# Altium footprint library SparkFun-Connectors.PCBLIB: 310 footprints (part 7 of 20)
Each footprint in its own frame and in the unit in brackets; x right, y up, seen from the top. Pads: shape width x height; smd on the part's side, far side on the other; paste and mask are expansions set on the pad; w line width, h text height; cw(c..) or ccw(c..) is an arc to the next point about the centre after c.
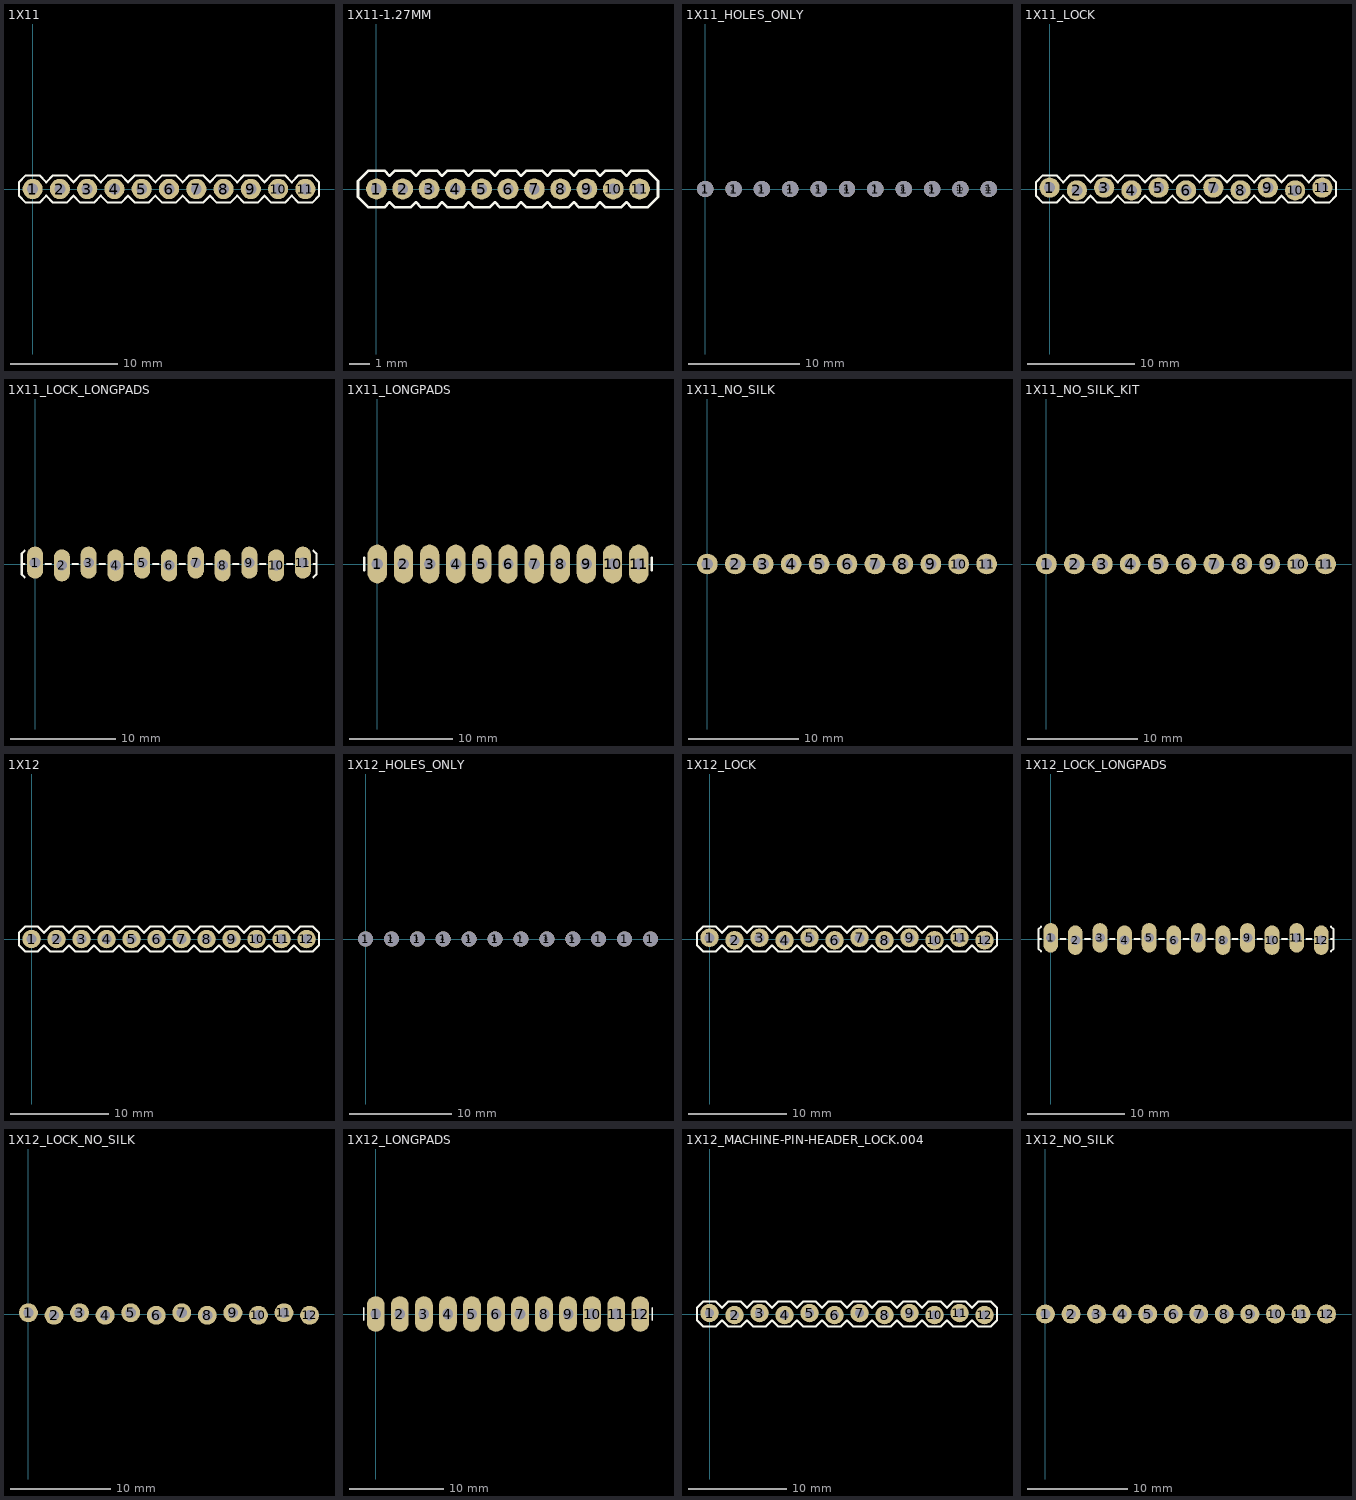
[diagram p6: the footprints below, top view; thin cyan lines are the x and y axes]

## 1X11 [mil]
pads (11):
  round 74 hole 40: 1(0,0) 2(100,0) 3(200,0) 4(300,0) 5(400,0) 6(500,0) 7(600,0) 8(700,0) 9(800,0) 10(900,0) 11(1000,0)
Top Overlay:
  lines w8: -50,-25 -50,25 -25,50 25,50 50,25 75,50 125,50 150,25 175,50 225,50 250,25 275,50 325,50 350,25 375,50 425,50 450,25 475,50 525,50 550,25 575,50 625,50 650,25 675,50 725,50 750,25 775,50 825,50 850,25 875,50 925,50 950,25 975,50 1025,50 1050,25 1050,-25 1025,-50 975,-50 950,-25 925,-50 875,-50 850,-25 825,-50 775,-50 750,-25 725,-50 675,-50 650,-25 625,-50 575,-50 550,-25 525,-50 475,-50 450,-25 425,-50 375,-50 350,-25 325,-50 275,-50 250,-25 225,-50 175,-50 150,-25 125,-50 75,-50 50,-25 25,-50 -25,-50 -50,-25
Mechanical 16:
  rectangle: 590,-10 610,10
  rectangle: 490,-10 510,10
  rectangle: 390,-10 410,10
  rectangle: 290,-10 310,10
  rectangle: 190,-10 210,10
  rectangle: 90,-10 110,10
  rectangle: -10,-10 10,10
  rectangle: 690,-10 710,10
  rectangle: 790,-10 810,10
  rectangle: 890,-10 910,10
  rectangle: 990,-10 1010,10

## 1X11-1.27MM [mm]
pads (11):
  round 1 hole 0.508: 1(0,0) 2(1.27,0) 3(2.54,0) 4(3.81,0) 5(5.08,0) 6(6.35,0) 7(7.62,0) 8(8.89,0) 9(10.16,0) 10(11.43,0) 11(12.7,0)
Top Overlay:
  lines w0.127: -0.889,-0.381 -0.889,0.381 -0.381,0.889 0.381,0.889 0.635,0.635 0.889,0.889 1.651,0.889 1.905,0.635 2.159,0.889 2.921,0.889 3.175,0.635 3.429,0.889 4.191,0.889 4.445,0.635 4.699,0.889 5.461,0.889 5.715,0.635 5.969,0.889 6.731,0.889 6.985,0.635 7.239,0.889 8.001,0.889 8.255,0.635 8.509,0.889 9.271,0.889 9.525,0.635 9.779,0.889 10.541,0.889 10.795,0.635 11.049,0.889 11.811,0.889 12.065,0.635 12.319,0.889 13.081,0.889 13.589,0.381 13.589,-0.381 13.081,-0.889 12.319,-0.889 12.065,-0.635 11.811,-0.889 11.049,-0.889 10.795,-0.635 10.541,-0.889 9.779,-0.889 9.525,-0.635 9.271,-0.889 8.509,-0.889 8.255,-0.635 8.001,-0.889 7.239,-0.889 6.985,-0.635 6.731,-0.889 5.969,-0.889 5.715,-0.635 5.461,-0.889 4.699,-0.889 4.445,-0.635 4.191,-0.889 3.429,-0.889 3.175,-0.635 2.921,-0.889 2.159,-0.889 1.905,-0.635 1.651,-0.889 0.889,-0.889 0.635,-0.635 0.381,-0.889 -0.381,-0.889 -0.889,-0.381

## 1X11_HOLES_ONLY [mil]
pads (22):
  round 32 hole 35: 1(0,0) 2(100,0) 3(200,0) 4(300,0) 5(400,0) 6(500,0) 7(600,0) 8(700,0) 9(800,0) 10(900,0) 11(1000,0)
  round 58 hole 58: 1(0,0) 1(100,0) 1(200,0) 1(300,0) 1(400,0) 1(500,0) 1(600,0) 1(700,0) 1(800,0) 1(900,0) 1(1000,0)
Mechanical 16:
  circle w5: c0,0 r25
  circle w5: c100,0 r25
  circle w5: c200,0 r25
  circle w5: c300,0 r25
  circle w5: c400,0 r25
  circle w5: c500,0 r25
  circle w5: c600,0 r25
  circle w5: c700,0 r25
  circle w5: c800,0 r25
  circle w5: c900,0 r25
  circle w5: c1000,0 r25

## 1X11_LOCK [mil]
pads (11):
  round 74 hole 40: 1(0,5) 2(100,-5) 3(200,5) 4(300,-5) 5(400,5) 6(500,-5) 7(600,5) 8(700,-5) 9(800,5) 10(900,-5) 11(1000,5)
Top Overlay:
  lines w8: -50,-25 -50,25 -25,50 25,50 50,25 75,50 125,50 150,25 175,50 225,50 250,25 275,50 325,50 350,25 375,50 425,50 450,25 475,50 525,50 550,25 575,50 625,50 650,25 675,50 725,50 750,25 775,50 825,50 850,25 875,50 925,50 950,25 975,50 1025,50 1050,25 1050,-25 1025,-50 975,-50 950,-25 925,-50 875,-50 850,-25 825,-50 775,-50 750,-25 725,-50 675,-50 650,-25 625,-50 575,-50 550,-25 525,-50 475,-50 450,-25 425,-50 375,-50 350,-25 325,-50 275,-50 250,-25 225,-50 175,-50 150,-25 125,-50 75,-50 50,-25 25,-50 -25,-50 -50,-25
Mechanical 16:
  rectangle: 590,-10 610,10
  rectangle: 490,-10 510,10
  rectangle: 390,-10 410,10
  rectangle: 290,-10 310,10
  rectangle: 190,-10 210,10
  rectangle: 90,-10 110,10
  rectangle: -10,-10 10,10
  rectangle: 690,-10 710,10
  rectangle: 790,-10 810,10
  rectangle: 890,-10 910,10
  rectangle: 990,-10 1010,10

## 1X11_LOCK_LONGPADS [mil]
pads (11):
  oval 60x120 hole 40: 1(0,5) 2(100,-5) 3(200,5) 4(300,-5) 5(400,5) 6(500,-5) 7(600,5) 8(700,-5) 9(800,5) 10(900,-5) 11(1000,5)
Top Overlay:
  lines w8: -40,0 -50,0 ; -39,-50 -50,-39 -50,0 ; -39,50 -50,39 -50,0 ; 40,0 60,0 ; 140,0 160,0 ; 240,0 260,0 ; 340,0 360,0 ; 440,0 460,0 ; 540,0 560,0 ; 640,0 660,0 ; 740,0 760,0 ; 840,0 860,0 ; 940,0 960,0 ; 1039,-50 1050,-39 1050,0 ; 1039,50 1050,39 1050,0 ; 1040,0 1050,0
Mechanical 16:
  rectangle: -11.5,-11.5 11.5,11.5
  rectangle: 88.5,-11.5 111.5,11.5
  rectangle: 188.5,-11.5 211.5,11.5
  region: 311.5,-11.5 311.5,11.5 288.5,11.5 288.5,-11.5
  rectangle: 388.5,-11.5 411.5,11.5
  rectangle: 488.5,-11.5 511.5,11.5
  rectangle: 588.5,-11.5 611.5,11.5
  rectangle: 688.5,-11.5 711.5,11.5
  rectangle: 788.5,-11.5 811.5,11.5
  region: 911.5,-11.5 911.5,11.5 888.5,11.5 888.5,-11.5
  rectangle: 988.5,-11.5 1011.5,11.5

## 1X11_LONGPADS [mil]
pads (11):
  oval 74x148 hole 44: 1(0,0) 2(100,0) 3(200,0) 4(300,0) 5(400,0) 6(500,0) 7(600,0) 8(700,0) 9(800,0) 10(900,0) 11(1000,0)
Top Overlay:
  lines w8: -50,-25 -50,25 ; 1050,-25 1050,25
Mechanical 16:
  rectangle: 590,-10 610,10
  rectangle: 490,-10 510,10
  rectangle: 390,-10 410,10
  rectangle: 290,-10 310,10
  rectangle: 190,-10 210,10
  rectangle: 90,-10 110,10
  rectangle: -10,-10 10,10
  rectangle: 690,-10 710,10
  rectangle: 790,-10 810,10
  rectangle: 890,-10 910,10
  rectangle: 990,-10 1010,10

## 1X11_NO_SILK [mil]
pads (11):
  round 74 hole 40: 1(0,0) 2(100,0) 3(200,0) 4(300,0) 5(400,0) 6(500,0) 7(600,0) 8(700,0) 9(800,0) 10(900,0) 11(1000,0)
Mechanical 16:
  rectangle: 590,-10 610,10
  rectangle: 490,-10 510,10
  rectangle: 390,-10 410,10
  rectangle: 290,-10 310,10
  rectangle: 190,-10 210,10
  rectangle: 90,-10 110,10
  rectangle: -10,-10 10,10
  rectangle: 690,-10 710,10
  rectangle: 790,-10 810,10
  rectangle: 890,-10 910,10
  rectangle: 990,-10 1010,10

## 1X11_NO_SILK_KIT [mil]
pads (11):
  round 74 hole 40: 1(0,0) 2(100,0) 3(200,0) 4(300,0) 5(400,0) 6(500,0) 7(600,0) 8(700,0) 9(800,0) 10(900,0) 11(1000,0)
Top Solder:
  circle w0: c0,0 r20
  circle w0: c100,0 r20
  circle w0: c200,0 r20
  circle w0: c300,0 r20
  circle w0: c400,0 r20
  circle w0: c500,0 r20
  circle w0: c600,0 r20
  circle w0: c700,0 r20
  circle w0: c800,0 r20
  circle w0: c900,0 r20
  circle w0: c1000,0 r20
Bottom Solder:
  circle w0: c0,0 r37.5
  circle w0: c100,0 r37.5
  circle w0: c200,0 r37.5
  circle w0: c300,0 r37.5
  circle w0: c400,0 r37.5
  circle w0: c500,0 r37.5
  circle w0: c600,0 r37.5
  circle w0: c700,0 r37.5
  circle w0: c800,0 r37.5
  circle w0: c900,0 r37.5
  circle w0: c1000,0 r37.5

## 1X12 [mil]
pads (12):
  round 74 hole 40: 1(0,0) 2(100,0) 3(200,0) 4(300,0) 5(400,0) 6(500,0) 7(600,0) 8(700,0) 9(800,0) 10(900,0) 11(1000,0) 12(1100,0)
Top Overlay:
  lines w8: -50,-25 -50,25 -25,50 25,50 50,25 75,50 125,50 150,25 175,50 225,50 250,25 275,50 325,50 350,25 375,50 425,50 450,25 475,50 525,50 550,25 575,50 625,50 650,25 675,50 725,50 750,25 775,50 825,50 850,25 875,50 925,50 950,25 975,50 1025,50 1050,25 1075,50 1125,50 1150,25 1150,-25 1125,-50 1075,-50 1050,-25 1025,-50 975,-50 950,-25 925,-50 875,-50 850,-25 825,-50 775,-50 750,-25 725,-50 675,-50 650,-25 625,-50 575,-50 550,-25 525,-50 475,-50 450,-25 425,-50 375,-50 350,-25 325,-50 275,-50 250,-25 225,-50 175,-50 150,-25 125,-50 75,-50 50,-25 25,-50 -25,-50 -50,-25
Mechanical 16:
  rectangle: 590,-10 610,10
  rectangle: 490,-10 510,10
  rectangle: 390,-10 410,10
  rectangle: 290,-10 310,10
  rectangle: 190,-10 210,10
  rectangle: 90,-10 110,10
  rectangle: -10,-10 10,10
  rectangle: 690,-10 710,10
  rectangle: 790,-10 810,10
  rectangle: 890,-10 910,10
  rectangle: 990,-10 1010,10
  rectangle: 1090,-10 1110,10

## 1X12_HOLES_ONLY [mil]
pads (24):
  round 32 hole 35: 1(0,0) 2(100,0) 3(200,0) 4(300,0) 5(400,0) 6(500,0) 7(600,0) 8(700,0) 9(800,0) 10(900,0) 11(1000,0) 12(1100,0)
  round 58 hole 58: 1(0,0) 1(100,0) 1(200,0) 1(300,0) 1(400,0) 1(500,0) 1(600,0) 1(700,0) 1(800,0) 1(900,0) 1(1000,0) 1(1100,0)
Mechanical 16:
  circle w5: c0,0 r25
  circle w5: c100,0 r25
  circle w5: c200,0 r25
  circle w5: c300,0 r25
  circle w5: c400,0 r25
  circle w5: c500,0 r25
  circle w5: c600,0 r25
  circle w5: c700,0 r25
  circle w5: c800,0 r25
  circle w5: c900,0 r25
  circle w5: c1000,0 r25
  circle w5: c1100,0 r25

## 1X12_LOCK [mil]
pads (12):
  round 74 hole 40: 1(0,5) 2(100,-5) 3(200,5) 4(300,-5) 5(400,5) 6(500,-5) 7(600,5) 8(700,-5) 9(800,5) 10(900,-5) 11(1000,5) 12(1100,-5)
Top Overlay:
  lines w8: -50,-25 -50,25 -25,50 25,50 50,25 75,50 125,50 150,25 175,50 225,50 250,25 275,50 325,50 350,25 375,50 425,50 450,25 475,50 525,50 550,25 575,50 625,50 650,25 675,50 725,50 750,25 775,50 825,50 850,25 875,50 925,50 950,25 975,50 1025,50 1050,25 1075,50 1125,50 1150,25 1150,-25 1125,-50 1075,-50 1050,-25 1025,-50 975,-50 950,-25 925,-50 875,-50 850,-25 825,-50 775,-50 750,-25 725,-50 675,-50 650,-25 625,-50 575,-50 550,-25 525,-50 475,-50 450,-25 425,-50 375,-50 350,-25 325,-50 275,-50 250,-25 225,-50 175,-50 150,-25 125,-50 75,-50 50,-25 25,-50 -25,-50 -50,-25
Mechanical 16:
  rectangle: 590,-10 610,10
  region: 510,-10 510,10 490,10 490,-10
  rectangle: 390,-10 410,10
  rectangle: 290,-10 310,10
  rectangle: 190,-10 210,10
  rectangle: 90,-10 110,10
  rectangle: -10,-10 10,10
  rectangle: 690,-10 710,10
  rectangle: 790,-10 810,10
  rectangle: 890,-10 910,10
  rectangle: 990,-10 1010,10
  rectangle: 1090,-10 1110,10

## 1X12_LOCK_LONGPADS [mil]
pads (12):
  oval 60x120 hole 40: 1(0,5) 2(100,-5) 3(200,5) 4(300,-5) 5(400,5) 6(500,-5) 7(600,5) 8(700,-5) 9(800,5) 10(900,-5) 11(1000,5) 12(1100,-5)
Top Overlay:
  lines w8: -40,0 -50,0 ; -39,-50 -50,-39 -50,0 ; -39,50 -50,39 -50,0 ; 40,0 60,0 ; 140,0 160,0 ; 240,0 260,0 ; 340,0 360,0 ; 440,0 460,0 ; 540,0 560,0 ; 640,0 660,0 ; 740,0 760,0 ; 840,0 860,0 ; 940,0 960,0 ; 1040,0 1060,0 ; 1139,-50 1150,-39 1150,0 ; 1139,50 1150,39 1150,0 ; 1140,0 1150,0
Mechanical 16:
  rectangle: -11.5,-11.5 11.5,11.5
  rectangle: 88.5,-11.5 111.5,11.5
  rectangle: 188.5,-11.5 211.5,11.5
  region: 311.5,-11.5 311.5,11.5 288.5,11.5 288.5,-11.5
  rectangle: 388.5,-11.5 411.5,11.5
  rectangle: 488.5,-11.5 511.5,11.5
  rectangle: 588.5,-11.5 611.5,11.5
  rectangle: 688.5,-11.5 711.5,11.5
  rectangle: 788.5,-11.5 811.5,11.5
  region: 911.5,-11.5 911.5,11.5 888.5,11.5 888.5,-11.5
  rectangle: 988.5,-11.5 1011.5,11.5
  rectangle: 1088.5,-11.5 1111.5,11.5

## 1X12_LOCK_NO_SILK [mil]
pads (12):
  round 74 hole 40: 1(0,5) 2(100,-5) 3(200,5) 4(300,-5) 5(400,5) 6(500,-5) 7(600,5) 8(700,-5) 9(800,5) 10(900,-5) 11(1000,5) 12(1100,-5)
Mechanical 16:
  rectangle: 590,-10 610,10
  rectangle: 490,-10 510,10
  rectangle: 390,-10 410,10
  rectangle: 290,-10 310,10
  rectangle: 190,-10 210,10
  rectangle: 90,-10 110,10
  rectangle: -10,-10 10,10
  rectangle: 1090,-10 1110,10
  rectangle: 990,-10 1010,10
  rectangle: 890,-10 910,10
  rectangle: 790,-10 810,10
  rectangle: 690,-10 710,10

## 1X12_LONGPADS [mil]
pads (12):
  oval 74x148 hole 44: 1(0,0) 2(100,0) 3(200,0) 4(300,0) 5(400,0) 6(500,0) 7(600,0) 8(700,0) 9(800,0) 10(900,0) 11(1000,0) 12(1100,0)
Top Overlay:
  lines w8: -50,-25 -50,25 ; 1150,-25 1150,25
Mechanical 16:
  rectangle: 590,-10 610,10
  rectangle: 490,-10 510,10
  rectangle: 390,-10 410,10
  rectangle: 290,-10 310,10
  rectangle: 190,-10 210,10
  rectangle: 90,-10 110,10
  rectangle: -10,-10 10,10
  rectangle: 690,-10 710,10
  rectangle: 790,-10 810,10
  rectangle: 890,-10 910,10
  rectangle: 990,-10 1010,10
  rectangle: 1090,-10 1110,10

## 1X12_MACHINE-PIN-HEADER_LOCK.004 [mil]
pads (12):
  round 74 hole 35: 1(0,4) 2(100,-4) 3(200,4) 4(300,-4) 5(400,4) 6(500,-4) 7(600,4) 8(700,-4) 9(800,4) 10(900,-4) 11(1000,4) 12(1100,-4)
Top Overlay:
  lines w8: -50,-25 -50,25 -25,50 25,50 50,25 75,50 125,50 150,25 175,50 225,50 250,25 275,50 325,50 350,25 375,50 425,50 450,25 475,50 525,50 550,25 575,50 625,50 650,25 675,50 725,50 750,25 775,50 825,50 850,25 875,50 925,50 950,25 975,50 1025,50 1050,25 1075,50 1125,50 1150,25 1150,-25 1125,-50 1075,-50 1050,-25 1025,-50 975,-50 950,-25 925,-50 875,-50 850,-25 825,-50 775,-50 750,-25 725,-50 675,-50 650,-25 625,-50 575,-50 550,-25 525,-50 475,-50 450,-25 425,-50 375,-50 350,-25 325,-50 275,-50 250,-25 225,-50 175,-50 150,-25 125,-50 75,-50 50,-25 25,-50 -25,-50 -50,-25
Mechanical 16:
  circle w1: c0,0 r13
  circle w1: c100,0 r13
  circle w1: c200,0 r13
  circle w1: c300,0 r13
  circle w1: c400,0 r13
  circle w1: c500,0 r13
  circle w1: c600,0 r13
  circle w1: c700,0 r13
  circle w1: c800,0 r13
  circle w1: c900,0 r13
  circle w1: c1000,0 r13
  circle w1: c1100,0 r13

## 1X12_NO_SILK [mil]
pads (12):
  round 74 hole 40: 1(0,0) 2(100,0) 3(200,0) 4(300,0) 5(400,0) 6(500,0) 7(600,0) 8(700,0) 9(800,0) 10(900,0) 11(1000,0) 12(1100,0)